# Altium schematic symbol library SCH - POWER - LINEAR VREG - MICROCHIP MCP1799.SchLib: 1 symbol
Pins are listed as number, name and electrical type; pins without a type are passive.

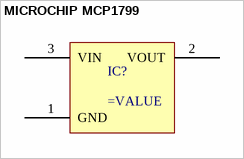
[diagram p0: symbol MICROCHIP MCP1799]

## MICROCHIP MCP1799
designator IC?
pins: 1 GND, 2 VOUT, 3 VIN